# EAGLE library part MCP602 (library IC & Transistor)
SMD Op Amp MCP602
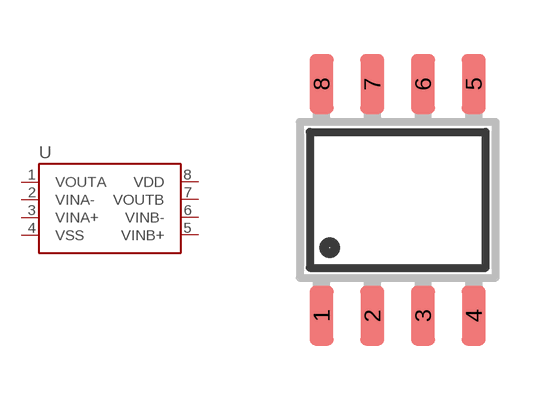
[diagram p52: symbol with the pads of SOIC-08N; footprint SOIC-08N]

Designator prefix U

## MCP602_(SOIC-08N) (CYTRON-PC: S-IC-MCP602-SO8; DESC: S Op Amp MCP602 SO8; MF: MICROCHIP; MPN: MCP602-I/SN)  [SOIC-08N]
1  VOUTA
2  VINA-
3  VINA+
4  VSS
5  VINB+
6  VINB-
7  VOUTB
8  VDD

## Footprint SOIC-08N (pad centres in mm)
Small Outline Integrated Circuit (SOIC) Narrow (JEDEC) SOIC Package Size: 4.9mm x 3.9mm Lead Pitch: 1.27mm
smd 0.6 x 1.5: 1 -1.905,-2.9; 2 -0.635,-2.9; 3 0.635,-2.9; 4 1.905,-2.9; 5 1.905,2.9; 6 0.635,2.9; 7 -0.635,2.9; 8 -1.905,2.9